# EAGLE library part 1926155-2_CARD (library LTM4607)
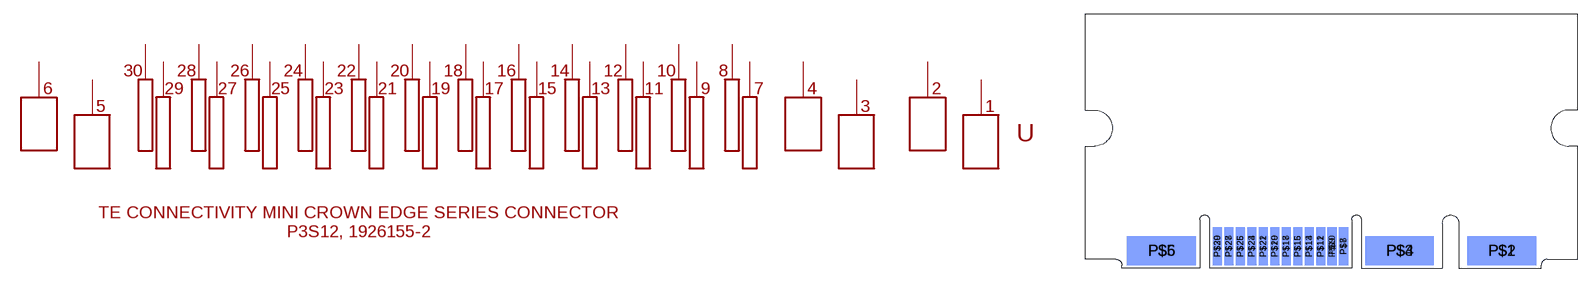
[diagram p1: symbol with the pads of 1926155-2_CARD; footprint 1926155-2_CARD]

Designator prefix -

## 1926155-2_CARD  [1926155-2_CARD]
P$1  P$1
P$2  P$2
P$3  P$3
P$4  P$4
P$5  P$5
P$6  P$6
P$7  P$7
P$8  P$8
P$9  P$9
P$10  P$10
P$11  P$11
P$12  P$12
P$13  P$13
P$14  P$14
P$15  P$15
P$16  P$16
P$17  P$17
P$18  P$18
P$19  P$19
P$20  P$20
P$21  P$21
P$22  P$22
P$23  P$23
P$24  P$24
P$25  P$25
P$26  P$26
P$27  P$27
P$28  P$28
P$29  P$29
P$30  P$30

## Footprint 1926155-2_CARD (pad centres in mm)
smd 7.62 x 3.2: P$1 18.835,1.929; P$3 7.535,1.929; P$5 -18.835,1.929
smd 7.62 x 3.2 bottom: P$2 18.835,1.929; P$4 7.535,1.929; P$6 -18.835,1.929
smd 1.02 x 4.2: P$7 1.335,2.429; P$9 0.065,2.429; P$11 -1.205,2.429; P$13 -2.475,2.429; P$15 -3.745,2.429; P$17 -5.015,2.429; P$19 -6.285,2.429; P$21 -7.555,2.429; P$23 -8.825,2.429; P$25 -10.095,2.429; P$27 -11.365,2.429; P$29 -12.635,2.429
smd 1.02 x 4.2 bottom: P$8 1.335,2.429; P$10 0.065,2.429; P$12 -1.205,2.429; P$14 -2.475,2.429; P$16 -3.745,2.429; P$18 -5.015,2.429; P$20 -6.285,2.429; P$22 -7.555,2.429; P$24 -8.825,2.429; P$26 -10.095,2.429; P$28 -11.365,2.429; P$30 -12.635,2.429